# Altium schematic symbol library CGA6L2X7R1H105K160AA.SchLib: 1 symbol
Pins are listed as number, name and electrical type; pins without a type are passive.

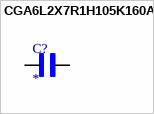
[diagram p0: symbol CGA6L2X7R1H105K160AA]

## CGA6L2X7R1H105K160AA
designator C?
MF: {'manufacturer': u'TDK'}; MP: CGA6L2X7R1H105K160AA; Value: *; Price: None; Availability: Unavailable; Package: None
footprint CAP_CGA6L2X7R1H105K160AA
pins: 1, 2